# Altium integrated library OPA4863PWR.IntLib: 2 symbols
Pins are listed as number, name and electrical type; pins without a type are passive.

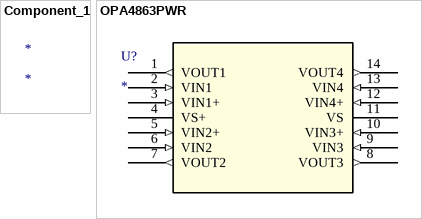
[diagram p0: symbols Component_1 to OPA4863PWR]

## Component_1
designator *

## OPA4863PWR
designator U?
No Description Available; Mfr_Name: Texas Instruments; Type: Linear; RefDes: RefDes
footprint PW14_TEX
pins: 1 VOUT1 (out), 2 VIN1 (in), 3 VIN1+ (in), 4 VS+ (power), 5 VIN2+ (in), 6 VIN2 (in), 7 VOUT2 (out), 8 VOUT3 (out), 9 VIN3 (in), 10 VIN3+ (in), 11 VS (power), 12 VIN4+ (in), 13 VIN4 (in), 14 VOUT4 (out)